# Altium schematic symbol library CAP - Surface Mount Ceramic Capacitors.SchLib: 8 symbols
Pins are listed as number, name and electrical type; pins without a type are passive.

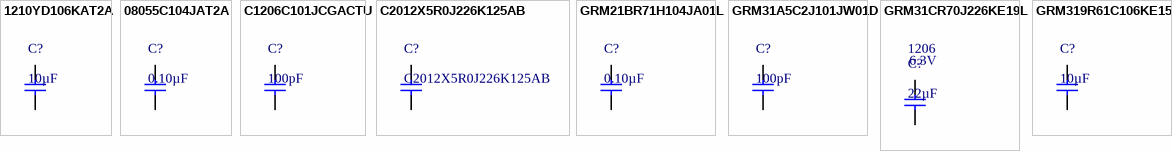
[diagram p0: symbols 1210YD106KAT2A to GRM319R61C106KE15D]

## 1210YD106KAT2A
designator C?, comment 10µF
CAP CER 10UF 16V X5R 1210; Manufacturer: AVX Corporation; Manufacturer Part Number: 1210YD106KAT2A; Tolerance: ±10%; Type: Standard X5R MLCCs; Voltage Rating DC: 16 VDC; Brand: AVX; Class: Class 2; Qualification: Commercial; Supplier 1: Digi-Key; RoHS: RoHS Compliant; Category: Capacitors; Stock 1: 11187; Pricing 1: 1=0.8, 10=0.588, 25=0.504, 50=0.4704, 100=0.4032, 250=0.3696, 500=0.3192 (USD); Packaging: Cut Tape (CT); Part Status: Active; Capacitance: 10µF; Voltage - Rated: 16V; Temperature Coefficient: X5R; Operating Temperature: -55°C ~ 85°C; Features: -; Ratings: -; Applications: General Purpose; Failure Rate: *; Mounting Type: Surface Mount, MLCC; Package / Case: 1210 (3225 Metric); Size / Dimension: 0.126" L x 0.098" W (3.20mm x 2.50mm); Height - Seated (Max): -; Thickness (Max): 0.110" (2.79mm); Lead Spacing: -; Lead Style: -; ComponentLink1URL: http://datasheets.avx.com/cx5r.pdf; ComponentLink1Description: http://datasheets.avx.com/cx5r.pdf; Supplier 2: Mouser; Stock 2: 1500; Pricing 2: 1=0.790, 50=0.780, 100=0.390, 500=0.353, 1000=0.240 (USD); Height: 2.79 mm; Length: 3.2 mm; Product: General Type MLCCs; Series: 1210; Termination Style: SMD/SMT; Width: 2.5 mm; Case Code - in: 1210; Case Code - mm: 3225; Dielectric: X5R; Maximum Operating Temperature: + 85 C; Minimum Operating Temperature: - 55 C; Standard Pack Qty: 1000; RoHS - Mouser: E; Minimum Order Quantity: 1; Reeling: True; ComponentLink2URL: http://www.mouser.com/ds/2/40/cx5r-776519.pdf; ComponentLink2Description: http://www.mouser.com/ds/2/40/cx5r-776519.pdf; Supplier Part Number 1: 478-1629-1-ND; Supplier Part Number 2: 581-1210YD106K
footprint C 1210
pins: 1, 2

## 08055C104JAT2A
designator C?, comment 0.10µF
CAP CER 0.1UF 50V X7R 0805; Manufacturer: AVX Corporation; Manufacturer Part Number: 08055C104JAT2A; Tolerance: ±5%; Type: X7R MLC Capacitors; Voltage Rating DC: 50 VDC; Brand: AVX; Capacitance - nF: 100 nF; Capacitance - pF: 100000 pF; Class: Class 2; Qualification: Commercial; Supplier 1: Digi-Key; RoHS: RoHS Compliant; Category: Capacitors; Stock 1: 534926; Pricing 1: 1=0.1, 10=0.062, 25=0.0448, 50=0.0336, 100=0.0274, 250=0.02296, 500=0.0196, 1000=0.0154 (USD); Packaging: Cut Tape (CT); Part Status: Active; Capacitance: 0.10µF; Voltage - Rated: 50V; Temperature Coefficient: X7R; Operating Temperature: -55°C ~ 125°C; Features: -; Ratings: -; Applications: General Purpose; Failure Rate: *; Mounting Type: Surface Mount, MLCC; Package / Case: 0805 (2012 Metric); Size / Dimension: 0.079" L x 0.049" W (2.01mm x 1.25mm); Height - Seated (Max): -; Thickness (Max): 0.037" (0.94mm); Lead Spacing: -; Lead Style: -; ComponentLink1URL: http://datasheets.avx.com/X7RDielectric.pdf; ComponentLink1Description: http://datasheets.avx.com/X7RDielectric.pdf; Supplier 2: Mouser; Stock 2: 129850; Pricing 2: 1=0.100, 50=0.033, 100=0.022, 500=0.019, 1000=0.015, 4000=0.011, 8000=0.010 (USD); Height: 0.5 mm; Length: 2 mm; Product: General Type MLCCs; Termination Style: SMD/SMT; Width: 1.2 mm; Case Code - in: 0805; Case Code - mm: 2012; Dielectric: X7R; Maximum Operating Temperature: + 125 C; Minimum Operating Temperature: - 55 C; Standard Pack Qty: 4000; Termination: -; RoHS - Mouser: E; Minimum Order Quantity: 1; Reeling: True; ComponentLink2URL: http://www.mouser.com/ds/2/40/X7RDielectric-777024.pdf; ComponentLink2Description: http://www.mouser.com/ds/2/40/X7RDielectric-777024.pdf; Supplier Part Number 1: 478-3352-1-ND; Supplier Part Number 2: 581-08055C104J
footprint C 0805 (Chip Capacitor, 2-Leads, Body 2.0x1.3mm, IPC Medium Density)
pins: 1, 2

## C1206C101JCGACTU
designator C?, comment 100pF
CAP CER 100PF 500V NP0 1206; Manufacturer: Kemet; Manufacturer Part Number: C1206C101JCGACTU; Tolerance: ±5%; Temperature Coefficient: C0G, NP0; Type: High Voltage C0G Dielectric, 500-3,000 VDC (Commercial & Automotive Grade); Voltage Rating DC: 500 VDC; Capacitance - nF: 0.1 nF; Class: Class 1; Dielectric: C0G (NP0); Supplier 1: Digi-Key; RoHS: RoHS Compliant; Category: Capacitors; Stock 1: 1581; Pricing 1: 1=0.35, 10=0.288, 50=0.162, 100=0.144, 250=0.108, 500=0.0954, 1000=0.0846 (USD); Packaging: Cut Tape (CT); Part Status: Active; Capacitance: 100pF; Voltage - Rated: 500V; Operating Temperature: -55°C ~ 125°C; Features: High Voltage; Ratings: -; Applications: SMPS Filtering; Failure Rate: -; Mounting Type: Surface Mount, MLCC; Package / Case: 1206 (3216 Metric); Size / Dimension: 0.126" L x 0.063" W (3.20mm x 1.60mm); Height - Seated (Max): -; Thickness (Max): 0.053" (1.35mm); Lead Spacing: -; Lead Style: -; ComponentLink1URL: http://www.kemet.com/docfinder?Partnumber=C1206C101JCGACTU; ComponentLink1Description: http://www.kemet.com/docfinder?Partnumber=C1206C101JCGACTU; Supplier 2: Mouser; Stock 2: 3717; Pricing 2: 1=0.350, 10=0.162, 100=0.108, 500=0.095, 1000=0.084, 2500=0.066, 10000=0.059, 25000=0.057, 50000=0.054 (USD); Diameter: -; Height: -; Length: 3.2 mm; Product: General Type MLCCs; Series: High Voltage C0G Dielectric; Termination Style: SMD/SMT; Voltage Rating AC: -; Width: 1.6 mm; Brand: Kemet; Case Code - in: 1206; Case Code - mm: 3216; Maximum Operating Temperature: + 125 C; Minimum Operating Temperature: - 55 C; Standard Pack Qty: 2500; RoHS - Mouser: Y; Minimum Order Quantity: 1; Reeling: True; ComponentLink2URL: http://www.mouser.com/ds/2/212/KEM_C1009_C0G_HV_SMD-515673.pdf; ComponentLink2Description: http://www.mouser.com/ds/2/212/KEM_C1009_C0G_HV_SMD-515673.pdf; Supplier Part Number 1: 399-7073-1-ND; Supplier Part Number 2: 80-C1206C101JCG
footprint C 1206
pins: 1, 2

## C2012X5R0J226K125AB
designator C?
Multilayer Ceramic Capacitors MLCC - SMD/SMT 0805 6.3V 22uF X5R 10% T: 1.25mm; Manufacturer: TDK; Type: Multilayer Ceramic Chip Capacitor; Voltage Rating DC: 6.3 VDC; Supplier 1: Mouser; Supplier Part Number 1: 810-C2012X5R0J226K-3; Manufacturer Part Number: C2012X5R0J226K125AB; RoHS: RoHS Compliant; Category: Multilayer Ceramic Capacitors MLCC - SMD/SMT; Stock 1: 19091; Pricing 1: 1=0.830, 10=0.589, 100=0.388, 500=0.287, 1000=0.244, 2000=0.200 (USD); Capacitance: 22 uF; Height: 1.25 mm; Length: 2 mm; Package: 0805 (2012 metric); Packaging: Cut Tape; Product: General Type MLCCs; Series: C; Termination Style: SMD/SMT; Tolerance: 10 %; Width: 1.25 mm; Brand: TDK; Case Code - in: 0805; Case Code - mm: 2012; Dielectric: X5R; Maximum Operating Temperature: + 85 C; Minimum Operating Temperature: - 55 C; Product Type: Ceramic Capacitors; Standard Pack Qty: 2000; Subcategory: Capacitors; RoHS - Mouser: Y; Minimum Order Quantity: 1; Reeling: True; ComponentLink1URL: https://www.mouser.com/datasheet/2/400/lcc_commercial_general_en-837201.pdf; ComponentLink1Description: https://www.mouser.com/datasheet/2/400/lcc_commercial_general_en-837201.pdf
footprint C 0805 (Chip Capacitor, 2-Leads, Body 2.0x1.3mm, IPC Medium Density)
pins: 1, 2

## GRM21BR71H104JA01L
designator C?, comment 0.10µF
CAP CER 0.1UF 50V X7R 0805; Manufacturer: Murata Electronics North America; Manufacturer Part Number: GRM21BR71H104JA01L; Tolerance: ±5%; Type: General Purpose MLCC; Voltage Rating DC: 50 VDC; Brand: Murata Electronics; Capacitance - nF: 100 nF; Capacitance - pF: 100000 pF; Qualification: Commercial; Supplier 1: Digi-Key; Supplier Part Number 1: 490-10782-1-ND; RoHS: RoHS Compliant; Category: Capacitors; Stock 1: 4029; Pricing 1: 1=0.16, 10=0.113, 50=0.065, 100=0.0537, 250=0.0452, 500=0.03786, 1000=0.03108 (USD); Packaging: Cut Tape (CT); Part Status: Active; Capacitance: 0.10µF; Voltage - Rated: 50V; Temperature Coefficient: X7R; Operating Temperature: -55°C ~ 125°C; Features: -; Ratings: -; Applications: General Purpose; Failure Rate: *; Mounting Type: Surface Mount, MLCC; Package / Case: 0805 (2012 Metric); Size / Dimension: 0.079" L x 0.049" W (2.00mm x 1.25mm); Height - Seated (Max): -; Thickness (Max): 0.053" (1.35mm); Lead Spacing: -; Lead Style: -; ComponentLink1URL: http://www.murata.com/~/media/webrenewal/support/library/catalog/products/capacitor/mlcc/c02e.pdf; ComponentLink1Description: http://www.murata.com/~/media/webrenewal/support/library/catalog/products/capacitor/mlcc/c02e.pdf; Supplier 2: Mouser; Supplier Part Number 2: 81-GRM21BR71H104JA01; Stock 2: 2452; Pricing 2: 1=0.160, 10=0.065, 100=0.045, 500=0.037, 1000=0.031, 3000=0.024, 9000=0.021, 24000=0.020, 45000=0.019 (USD); Height: 1.25 mm; Length: 2 mm; Product: General Type MLCCs; Series: GRM; Termination Style: SMD/SMT; Width: 1.25 mm; Case Code - in: 0805; Case Code - mm: 2012; Dielectric: X7R; Maximum Operating Temperature: + 125 C; Minimum Operating Temperature: - 55 C; Standard Pack Qty: 3000; RoHS - Mouser: Y; Minimum Order Quantity: 1; Reeling: True
footprint C 0805 (Chip Capacitor, 2-Leads, Body 2.0x1.3mm, IPC Medium Density)
pins: 1, 2

## GRM31A5C2J101JW01D
designator C?, comment 100pF
CAP CER 100PF 630V NP0 1206; Manufacturer: Murata Electronics North America; Manufacturer Part Number: GRM31A5C2J101JW01D; Tolerance: ±5%; Temperature Coefficient: C0G, NP0; Type: General Purpose MLCC; Voltage Rating DC: 630 VDC; Brand: Murata Electronics; Capacitance - nF: 0.1 nF; Dielectric: C0G (NP0); Qualification: Commercial; Supplier 1: Digi-Key; Supplier Part Number 1: 490-5273-1-ND; RoHS: RoHS Compliant; Category: Capacitors; Stock 1: 17975; Pricing 1: 1=0.24, 10=0.165, 50=0.1, 100=0.084, 250=0.068, 500=0.06, 1000=0.051 (USD); Packaging: Cut Tape (CT); Part Status: Active; Capacitance: 100pF; Voltage - Rated: 630V; Operating Temperature: -55°C ~ 125°C; Features: -; Ratings: -; Applications: General Purpose; Failure Rate: *; Mounting Type: Surface Mount, MLCC; Package / Case: 1206 (3216 Metric); Size / Dimension: 0.126" L x 0.063" W (3.20mm x 1.60mm); Height - Seated (Max): -; Thickness (Max): 0.039" (1.00mm); Lead Spacing: -; Lead Style: -; ComponentLink1URL: http://www.murata.com/~/media/webrenewal/support/library/catalog/products/capacitor/mlcc/c02e.pdf; ComponentLink1Description: http://www.murata.com/~/media/webrenewal/support/library/catalog/products/capacitor/mlcc/c02e.pdf; Supplier 2: Mouser; Supplier Part Number 2: 81-GRM31A5C2J101JW01; Stock 2: 72816; Pricing 2: 1=0.240, 10=0.100, 100=0.068, 500=0.060, 4000=0.060 (USD); Height: 1 mm; Length: 3.2 mm; Product: General Type MLCCs; Series: GRM; Termination Style: SMD/SMT; Width: 1.6 mm; Case Code - in: 1206; Case Code - mm: 3216; Maximum Operating Temperature: + 125 C; Minimum Operating Temperature: - 55 C; Standard Pack Qty: 4000; RoHS - Mouser: Y; Minimum Order Quantity: 1; Reeling: True
footprint C 1206
pins: 1, 2

## GRM31CR70J226KE19L
designator C?, comment 22µF  Voltage - Rated: 6.3V  Package: 1206
CAP CER 22UF 6.3V X7R 1206; Manufacturer: Murata Electronics North America; Manufacturer Part Number: GRM31CR70J226KE19L; Tolerance: ±10%; Supplier 1: Digi-Key; Supplier Part Number 1: 490-6515-1-ND; RoHS: RoHS Compliant; Category: Capacitors; Stock 1: 248; Pricing 1: 1=0.5, 10=0.356, 25=0.3044, 50=0.2696, 100=0.2347, 250=0.19996, 500=0.17388, 1000=0.1478 (USD); Packaging: Cut Tape (CT); Part Status: Active; Capacitance: 22µF; Temperature Coefficient: X7R; Operating Temperature: -55°C ~ 125°C; Features: -; Ratings: -; Applications: General Purpose; Mounting Type: Surface Mount, MLCC; Size / Dimension: 0.126" L x 0.063" W (3.20mm x 1.60mm); Height - Seated (Max): -; Thickness (Max): 0.071" (1.80mm); Lead Spacing: -; Lead Style: -; ComponentLink1URL: http://www.murata.com/~/media/webrenewal/support/library/catalog/products/capacitor/mlcc/c02e.ashx; ComponentLink1Description: http://www.murata.com/~/media/webrenewal/support/library/catalog/products/capacitor/mlcc/c02e.ashx
footprint C 1206
pins: 1, 2

## GRM319R61C106KE15D
designator C?, comment 10µF
CAP CER 10UF 16V X5R 1206; Manufacturer: Murata Electronics North America; Manufacturer Part Number: GRM319R61C106KE15D; Tolerance: ±10%; Type: General Purpose MLCC; Voltage Rating DC: 16 VDC; Brand: Murata Electronics; Supplier 1: Digi-Key; Supplier Part Number 1: 490-6494-1-ND; RoHS: RoHS Compliant; Category: Capacitors; Stock 1: 16378; Pricing 1: 1=0.24, 10=0.165, 50=0.1, 100=0.084 (USD); Packaging: Cut Tape (CT); Part Status: Active; Capacitance: 10µF; Voltage - Rated: 16V; Temperature Coefficient: X5R; Operating Temperature: -55°C ~ 85°C; Features: -; Ratings: -; Applications: General Purpose; Failure Rate: *; Mounting Type: Surface Mount, MLCC; Package / Case: 1206 (3216 Metric); Size / Dimension: 0.126" L x 0.063" W (3.20mm x 1.60mm); Height - Seated (Max): -; Thickness (Max): 0.037" (0.95mm); Lead Spacing: -; Lead Style: -; ComponentLink1URL: http://www.murata.com/~/media/webrenewal/support/library/catalog/products/capacitor/mlcc/c02e.pdf; ComponentLink1Description: http://www.murata.com/~/media/webrenewal/support/library/catalog/products/capacitor/mlcc/c02e.pdf; Supplier 2: Mouser; Supplier Part Number 2: 81-GRM319R61C106KE5D; Stock 2: 5402; Pricing 2: 1=0.240, 10=0.100, 100=0.084, 500=0.072, 1000=0.059, 4000=0.040 (USD); Height: 0.85 mm; Length: 3.2 mm; Product: General Type MLCCs; Series: GRM; Termination Style: SMD/SMT; Width: 1.6 mm; Case Code - in: 1206; Case Code - mm: 3216; Dielectric: X5R; Maximum Operating Temperature: + 85 C; Minimum Operating Temperature: - 55 C; Standard Pack Qty: 4000; RoHS - Mouser: Y; Minimum Order Quantity: 1; Reeling: True
footprint C 1206
pins: 1, 2